# Altium footprint library ST_LINK_V2.11.PcbLib: 14 footprints
Each footprint in its own frame and in the unit in brackets; x right, y up, seen from the top. Pads: shape width x height; smd on the part's side, far side on the other; paste and mask are expansions set on the pad; w line width, h text height; cw(c..) or ccw(c..) is an arc to the next point about the centre after c.
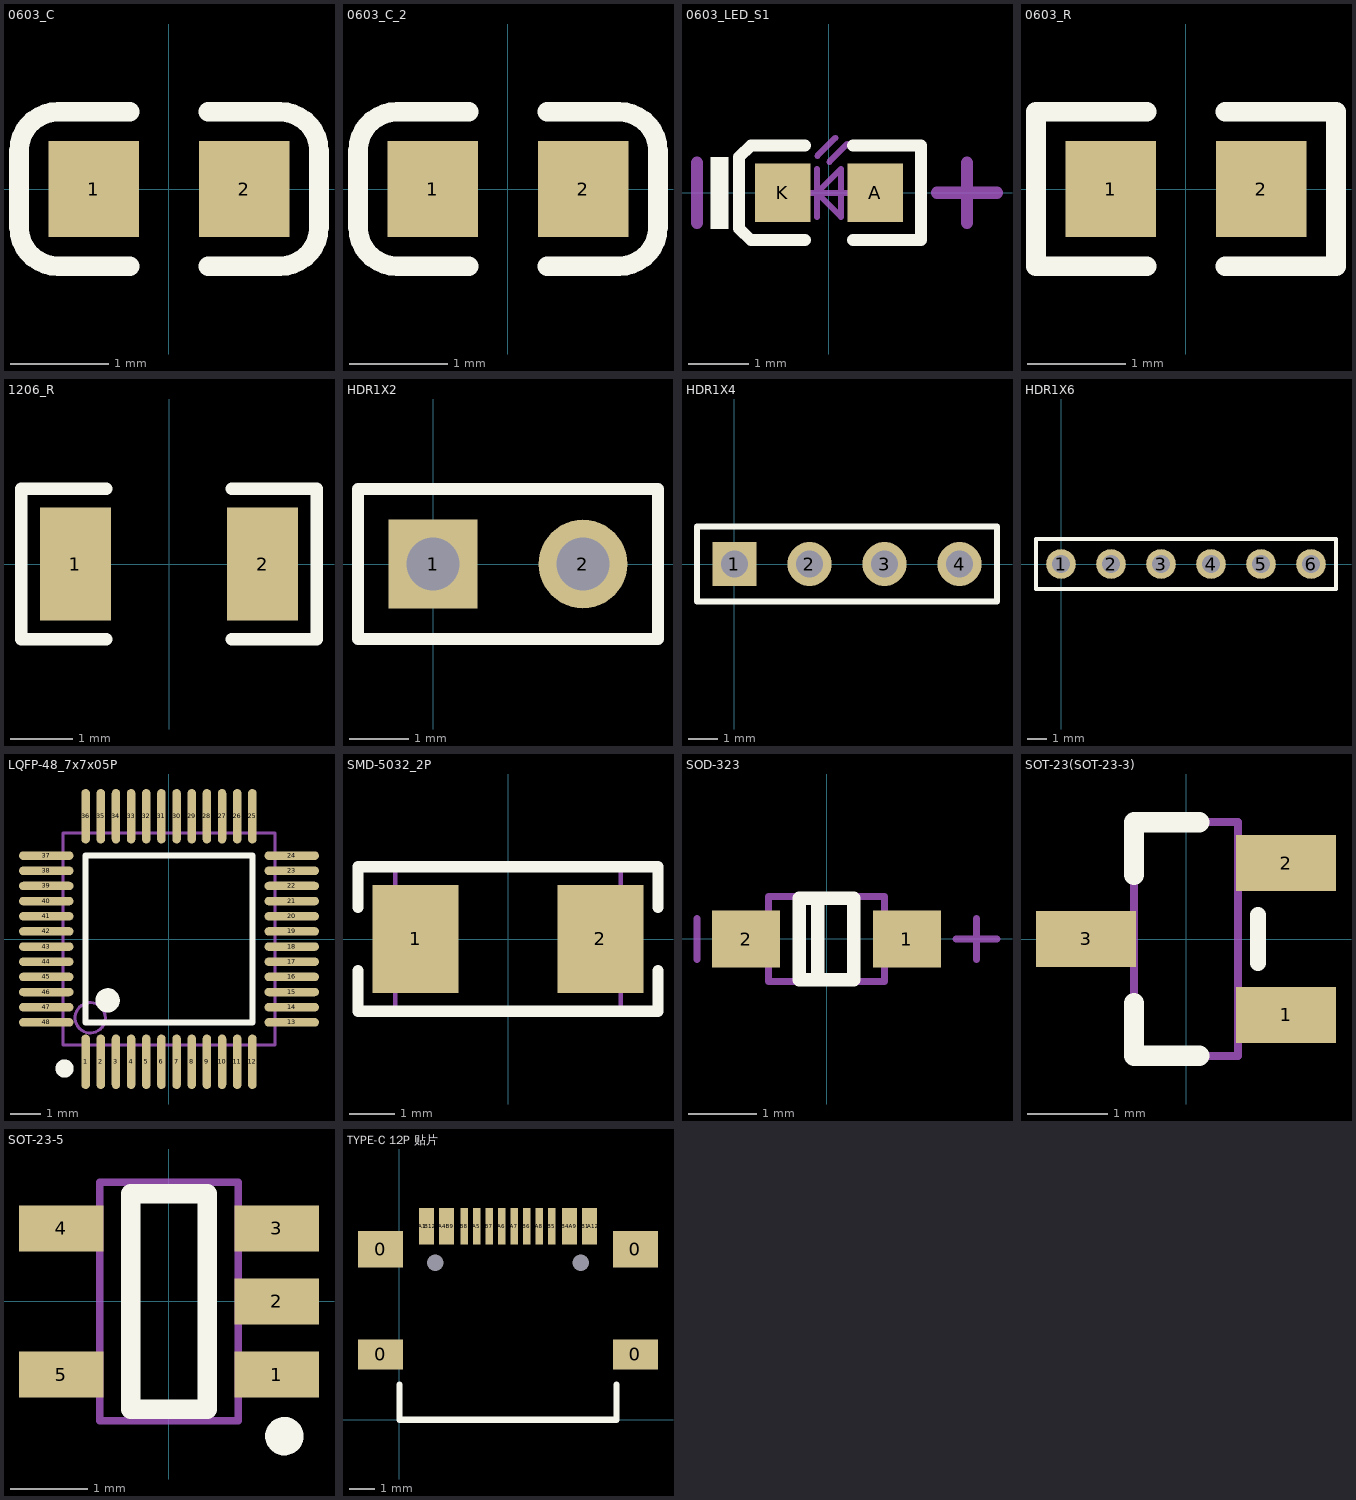
[diagram p0: the footprints below, top view; thin cyan lines are the x and y axes]

## 0603_C [mm]
pads (2):
  rect 0.93x0.98 smd: 1(-0.77,0) 2(0.77,0)
Top Overlay:
  lines w0.2: -0.4,-0.79 -1.135,-0.79 cw(c-1.135,-0.39) -1.535,-0.39 -1.535,0.39 cw(c-1.135,0.39) -1.135,0.79 -0.4,0.79 ; 0.4,-0.79 1.135,-0.79 ccw(c1.135,-0.39) 1.535,-0.39 1.535,0.39 ccw(c1.135,0.39) 1.135,0.79 0.4,0.79
3D body "User Library-0603 SMD Capacitor.STEP": height 0.3, standoff 0, extent -0.8,-0.4 0.8,0.4

## 0603_C_2 [mm]
pads (2):
  rect 0.93x0.98 smd: 1(-0.77,0) 2(0.77,0)
Top Overlay:
  lines w0.2: -0.4,-0.79 -1.135,-0.79 cw(c-1.135,-0.39) -1.535,-0.39 -1.535,0.39 cw(c-1.135,0.39) -1.135,0.79 -0.4,0.79 ; 0.4,-0.79 1.135,-0.79 ccw(c1.135,-0.39) 1.535,-0.39 1.535,0.39 ccw(c1.135,0.39) 1.135,0.79 0.4,0.79
3D body "User Library-0603 SMD Capacitor.STEP": height 0.3, standoff 0, extent -0.8,-0.4 0.8,0.4

## 0603_LED_S1 [mm]
pads (2):
  rect 0.93x0.98 smd: A(0.77,0) K(-0.77,0)
Top Overlay:
  rectangle: -1.975,-0.6 -1.675,0.6
  lines w0.2: -0.4,-0.79 -1.3,-0.79 -1.5,-0.597 -1.5,0.597 -1.3,0.79 -0.4,0.79 ; 0.4,-0.79 1.535,-0.79 1.535,0.79 0.4,0.79
Mechanical 13:
  lines w0.1: -0.4,0 0.4,0 ; -0.2,-0.4 -0.2,0.4 ; -0.195,0.617 0.105,0.917 ; 0.005,0.517 0.305,0.817 ; -0.2,0 0.2,-0.4 0.2,0.4 -0.2,0
Mechanical 15:
  lines w0.203: -2.2,-0.5 -2.2,0.5 ; 1.8,0 2.8,0 ; 2.3,-0.5 2.3,0.5
3D body "User Library-LED_0603_R.STEP": height 0.6, standoff 0, extent -0.8,-0.4 0.8,0.4

## 0603_R [mm]
pads (2):
  rect 0.93x0.98 smd: 1(-0.77,0) 2(0.77,0)
Top Overlay:
  lines w0.2: -0.4,-0.79 -1.535,-0.79 -1.535,0.79 -0.4,0.79 ; 0.4,-0.79 1.535,-0.79 1.535,0.79 0.4,0.79
3D body "User Library-RES_1609-0603.STEP": height 0.56, standoff 0, extent -0.85,-0.4 0.85,0.4

## 1206_R [mm]
pads (2):
  rect 1.13x1.8 smd: 1(-1.49,0) 2(1.49,0)
Top Overlay:
  lines w0.2: -1,-1.2 -2.355,-1.2 -2.355,1.2 -1,1.2 ; 1,-1.2 2.355,-1.2 2.355,1.2 1,1.2
3D body "User Library-RES_3216-1206.STEP": height 0.85, standoff 0, extent -1.7,-0.864 1.65,0.866

## HDR1X2 [mm] "Connector; Header; 2 Position"
pads (2):
  rect 1.5x1.5 hole 0.9: 1(0,0)
  round 1.5 hole 0.9: 2(2.54,0)
Top Overlay:
  lines w0.2: -1.27,-1.27 -1.27,1.27 3.81,1.27 3.81,-1.27 -1.27,-1.27

## HDR1X4 [mm] "Connector; Header; 4 Position"
pads (4):
  rect 1.5x1.5 hole 0.9: 1(0,0)
  round 1.5 hole 0.9: 2(2.54,0) 3(5.08,0) 4(7.62,0)
Top Overlay:
  lines w0.2: -1.27,-1.27 -1.27,1.27 8.89,1.27 8.89,-1.27 -1.27,-1.27

## HDR1X6 [mm] "Connector; Header; 6 Position"
pads (6):
  round 1.5 hole 0.9: 1(0,0) 2(2.54,0) 3(5.08,0) 4(7.62,0) 5(10.16,0) 6(12.7,0)
Top Overlay:
  lines w0.2: -1.27,-1.27 -1.27,1.27 13.97,1.27 13.97,-1.27 -1.27,-1.27

## LQFP-48_7x7x05P [mm]
pads (48):
  oval 0.28x1.8 smd mask+0.051: 1(-2.75,-4.05) 2(-2.25,-4.05) 3(-1.75,-4.05) 4(-1.25,-4.05) 5(-0.75,-4.05) 6(-0.25,-4.05) 7(0.25,-4.05) 8(0.75,-4.05) 9(1.25,-4.05) 10(1.75,-4.05) 11(2.25,-4.05) 12(2.75,-4.05) 25(2.75,4.05) 26(2.25,4.05) 27(1.75,4.05) 28(1.25,4.05) 29(0.75,4.05) 30(0.25,4.05) 31(-0.25,4.05) 32(-0.75,4.05) 33(-1.25,4.05) 34(-1.75,4.05) 35(-2.25,4.05) 36(-2.75,4.05)
  oval 1.8x0.28 smd mask+0.051: 13(4.05,-2.75) 14(4.05,-2.25) 15(4.05,-1.75) 16(4.05,-1.25) 17(4.05,-0.75) 18(4.05,-0.25) 19(4.05,0.25) 20(4.05,0.75) 21(4.05,1.25) 22(4.05,1.75) 23(4.05,2.25) 24(4.05,2.75) 37(-4.05,2.75) 38(-4.05,2.25) 39(-4.05,1.75) 40(-4.05,1.25) 41(-4.05,0.75) 42(-4.05,0.25) 43(-4.05,-0.25) 44(-4.05,-0.75) 45(-4.05,-1.25) 46(-4.05,-1.75) 47(-4.05,-2.25) 48(-4.05,-2.75)
Top Overlay:
  circle w0.3: c-3.45,-4.275 r0.15
  circle w0.4: c-2.025,-2.025 r0.2
  lines w0.2: -2.75,-2.75 2.75,-2.75 2.75,2.75 -2.75,2.75 -2.75,-2.75
Mechanical 13:
  circle w0.1: c-2.6,-2.6 r0.5
  lines w0.1: -3.5,-3.5 3.5,-3.5 3.5,3.5 -3.5,3.5 -3.5,-3.5
3D body "QFP48P50_900X900X160L60X19.STEP": height 1.6, standoff 0, extent -4.5,-4.5 4.5,4.5

## SMD-5032_2P [mm]
pads (2):
  rect 1.9x2.4 smd: 1(-2.05,0) 2(2.05,0)
Top Overlay:
  lines w0.254: -3.325,-0.7 -3.325,-1.6 3.325,-1.6 3.325,-0.7 ; -3.325,0.7 -3.325,1.6 3.325,1.6 3.325,0.7
Mechanical 13:
  lines w0.1: -2.5,-1.6 -2.5,1.6 2.5,1.6 2.5,-1.6 -2.5,-1.6

## SOD-323 [mm]
pads (2):
  rect 1x0.83 smd: 1(1.18,0) 2(-1.18,0)
Top Overlay:
  lines w0.2: -0.13,-0.6 -0.13,0.6 ; -0.4,-0.6 -0.4,0.6 0.4,0.6 0.4,-0.6 -0.4,-0.6
Mechanical 13:
  lines w0.1: -0.85,-0.625 -0.85,0.625 0.85,0.625 0.85,-0.625 -0.85,-0.625
Mechanical 15:
  lines w0.1: -1.9,-0.3 -1.9,0.3 ; 1.9,0 2.5,0 ; 2.2,-0.3 2.2,0.3
3D body "SOD323.STEP": height 1.1, standoff 0, extent -1.35,-0.625 1.35,0.625

## SOT-23(SOT-23-3) [mm]
pads (3):
  rect 1.25x0.7 smd: 1(1.25,-0.95) 2(1.25,0.95) 3(-1.25,0)
Top Overlay:
  lines w0.2: 0.9,-0.3 0.9,0.3
  lines w0.254: -0.65,-0.8 -0.65,-1.46 0.165,-1.46 ; 0.165,1.46 -0.65,1.46 ; -0.65,0.8 -0.65,1.46 ; -0.65,0.8 -0.65,1.46 ; -0.65,0.8 -0.65,1.46
Mechanical 13:
  lines w0.1: -0.65,-1.46 -0.65,1.46 ; -0.65,-1.46 0.65,-1.46 ; -0.65,-1.46 0.65,-1.46 ; -0.65,-1.46 -0.65,1.46 ; -0.65,-1.46 0.65,-1.46 ; -0.65,-1.46 -0.65,1.46 ; -0.65,1.46 0.65,1.46 ; -0.65,1.46 0.65,1.46 ; -0.65,1.46 0.65,1.46 ; 0.65,-1.46 0.65,1.46 ; 0.65,-1.46 0.65,1.46 ; 0.65,-1.46 0.65,1.46
3D body "SOT-23.step": height 1.3, standoff 0, extent -1.5,-1.5 1.5,1.5

## SOT-23-5 [mm]
pads (5):
  rect 1.1x0.6 smd: 1(1.4,-0.95) 2(1.4,0) 3(1.4,0.95) 4(-1.4,0.95) 5(-1.4,-0.95)
Top Overlay:
  circle w0.25: c1.5,-1.75 r0.125
  lines w0.254: -0.5,-1.4 0.5,-1.4 0.5,1.4 -0.5,1.4 -0.5,-1.4
Mechanical 13:
  lines w0.1: -0.9,-1.55 -0.9,1.55 0.9,1.55 0.9,-1.55 -0.9,-1.55

## TYPE-C 12P 贴片 [mm]
pads (22):
  rect 1.8x1.2 smd: 0(-0.75,2.6) 0(9.39,2.6)
  rect 1.8x1.45 smd: 0(-0.75,6.78) 0(9.39,6.78)
  round 0 hole 0.65: 5(1.43,6.25) 5(7.21,6.25)
  rect 0.3x1.45 smd: A1(0.92,7.695) A4(1.72,7.695) A5(3.07,7.695) A6(4.07,7.695) A7(4.57,7.695) A8(5.57,7.695) A9(6.92,7.695) A12(7.72,7.695) B1(7.42,7.695) B4(6.62,7.695) B5(6.07,7.695) B6(5.07,7.695) B7(3.57,7.695) B8(2.57,7.695) B9(2.02,7.695) B12(1.22,7.695)
Top Overlay:
  lines w0.254: 0,1.397 0,0 8.64,0 ; 8.636,0.004 8.636,1.397
3D body: height 3.21, standoff 0, extent 0,0 8.636,8.001